# Altium footprint library SafetySocket.PcbLib: 24 footprints (part 2 of 2)
Each footprint in its own frame and in the unit in brackets; x right, y up, seen from the top. Pads: shape width x height; smd on the part's side, far side on the other; paste and mask are expansions set on the pad; w line width, h text height; cw(c..) or ccw(c..) is an arc to the next point about the centre after c.
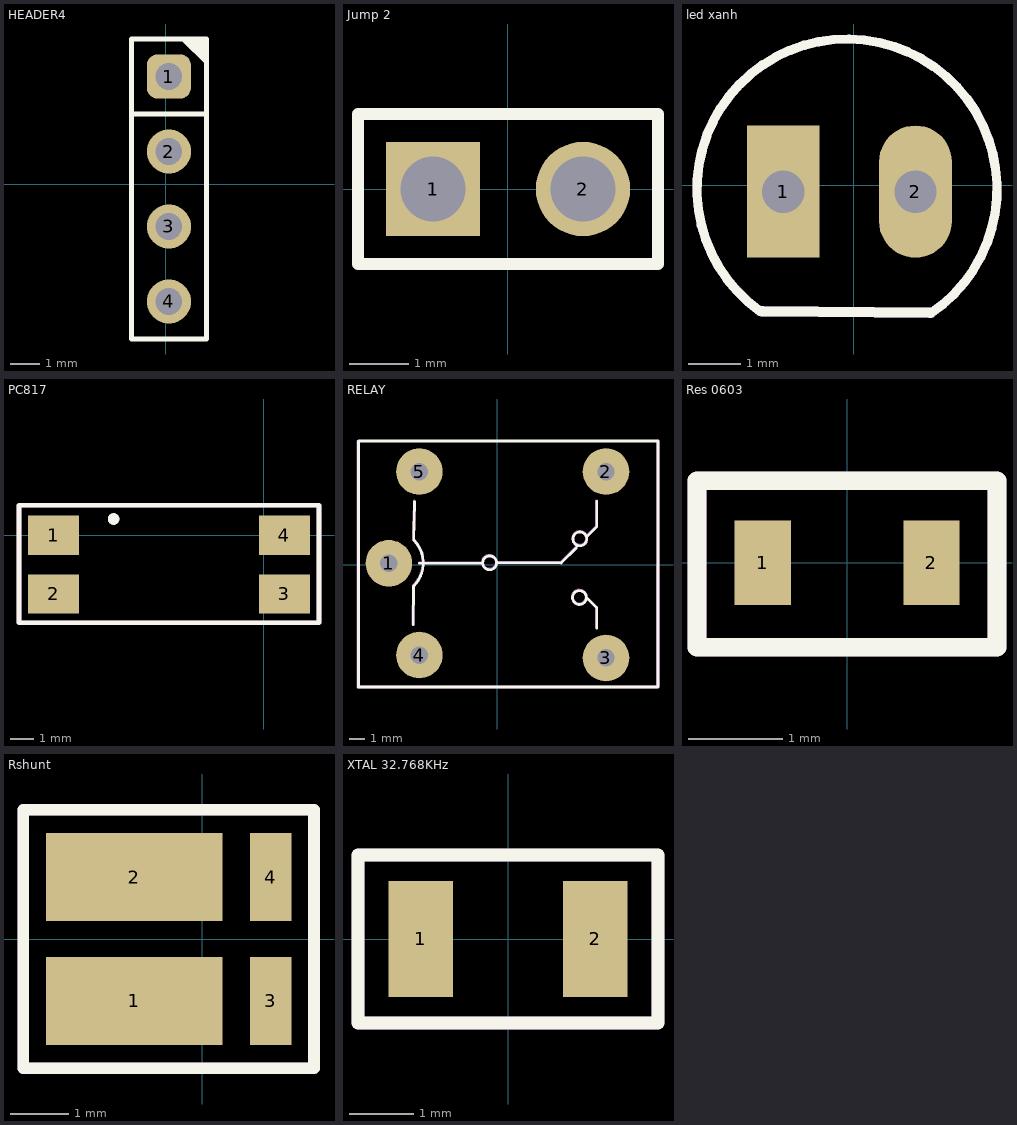
[diagram p1: the footprints below, top view; thin cyan lines are the x and y axes]

## HEADER4 [mm]
pads (4):
  rrect50% 1.5x1.5 hole 0.9: 1(0.104,3.656)
  round 1.5 hole 0.9: 2(0.104,1.116) 3(0.104,-1.424) 4(0.104,-3.964)
Top Overlay:
  region: 1.38,4.032 0.51,4.901 1.38,4.901
  lines w0.178: -1.166,2.386 1.374,2.386 ; -1.166,-5.234 -1.166,4.926 1.374,4.926 1.374,-5.234 -1.166,-5.234
Mechanical 15:
  text ".Comment" at -0.8,0.4 h0.6
Mechanical 29:
  text "'.Designator'" at -1.2,0.4 h0.6
3D body: height 7, standoff -2.5, extent -0.294,-4.363 0.502,-3.564
3D body: height 7, standoff -2.5, extent -0.294,-1.823 0.502,-1.024
3D body: height 7, standoff -2.5, extent -0.294,0.717 0.502,1.516
3D body: height 7, standoff -2.5, extent -0.294,3.257 0.502,4.056
3D body: height 1.5, standoff 0, extent -1.166,2.386 1.374,4.926
3D body: height 1.5, standoff 0, extent -1.166,-0.154 1.374,2.386
3D body: height 1.5, standoff 0, extent -1.166,-2.694 1.374,-0.154
3D body: height 1.5, standoff 0, extent -1.166,-5.234 1.374,-2.694

## Jump 2 [mm]
pads (2):
  rect 1.6x1.6 hole 1.1: 1(-1.27,0)
  round 1.6 hole 1.1: 2(1.27,0)
Top Overlay:
  lines w0.2: -2.54,-1.27 -2.54,1.27 2.54,1.27 2.54,-1.27 -2.54,-1.27
3D body "61300211121.stp": height 8.54, standoff -3, extent -2.54,-1.27 2.54,1.27

## led xanh [mm]
pads (2):
  rect 1.4x2.54 hole 0.813: 1(-1.35,-0.125)
  oval 1.4x2.54 hole 0.813: 2(1.19,-0.125)
Top Overlay:
  lines w0.178: -1.798,-2.421 cw(c-0.125,-0.075) 1.485,-2.465
  lines w0.2: -1.75,-2.425 1.475,-2.45
Mechanical 15:
  lines w0.178: -1.798,-2.421 cw(c-0.125,-0.075) 1.485,-2.465
  lines w0.2: -1.75,-2.425 1.475,-2.45
Mechanical 29:
  lines w0.178: -1.798,-2.421 cw(c-0.125,-0.075) 1.485,-2.465
  lines w0.2: -1.75,-2.425 1.475,-2.45
3D body "CircuitWorks-REDLED.step": height 5.38, standoff -3.17, extent -2.074,-1.623 1.914,1.869

## PC817 [mm]
pads (4):
  rect 2.2x1.7 smd: 1(-9.1,0) 2(-9.1,-2.55) 3(0.9,-2.55) 4(0.9,0)
Top Overlay:
  circle w0.25: c-6.5,0.7 r0.125
  lines w0.2: -10.6,-3.8 2.4,-3.8 2.4,1.3 -10.6,1.3 -10.6,-3.8
Mechanical 15:
  circle w0.25: c-6.5,0.7 r0.125
  lines w0.2: -10.6,-3.8 -10.6,1.3 2.4,1.3 2.4,-3.8 -10.6,-3.8
  text ".Comment" at -6.8,-1.1 h0.6
Mechanical 29:
  circle w0.25: c-6.5,0.7 r0.125
  lines w0.2: -10.6,-3.8 -10.6,1.3 2.4,1.3 2.4,-3.8 -10.6,-3.8
  text "'.Designator'" at -7.2,-1.1 h0.6
3D body "Trans_SHARP_PC817XNNIP0F_eec.STEP": height 4.6, standoff 0, extent -9.1,-3.565 0.9,1.015

## RELAY [mil]
pads (5):
  round 120 hole 45: 1(-279.53,3.78) 2(279.53,240) 3(279.53,-240) 4(-200.79,-232.44) 5(-200.79,240)
Top Overlay:
  circle w7: c-20.11,4.9 r17.8
  circle w7: c211.26,-84.4 r17.8
  circle w7: c212.26,66.6 r17.8
  lines w7: -358.27,-314.96 413.39,-314.96 ; -216.54,-154.53 -216.31,-55.1 ; -215.31,-54.1 ccw(c-272.81,4.4) -214.31,61.9 ; -215.31,62.9 -213.58,162.4 ; -200.79,3.78 -40.31,3.9 ; -0.31,4.9 164.07,4.9 ; 164.07,4.8 203.07,43.8 ; 229.07,-84.4 256.07,-111.4 255.91,-163.39 ; 230.07,72.6 256.07,98.6 255.91,163.39
  lines w7.87: -358.27,-314.96 -358.27,318.9 413.39,318.9 413.39,-314.96
Mechanical 15:
  circle w7: c211.54,68.32 r17.8
  circle w7: c210.54,-82.68 r17.8
  circle w7: c-20.83,6.62 r17.8
  lines w7: -217.26,-152.8 -217.03,-53.38 ; -216.03,-52.38 ccw(c-273.53,6.12) -215.03,63.62 ; -216.03,64.62 -214.3,164.12 ; -201.51,5.5 -41.03,5.62 ; -1.03,6.62 163.35,6.62 ; 163.35,6.52 202.35,45.52 ; 228.35,-82.68 255.35,-109.68 255.18,-161.66 ; 229.35,74.32 255.35,100.32 255.18,165.11 ; -358.99,-314.96 411.74,-314.96 413.43,319.09 -358.99,317.89 -358.99,-314.96
  text ".Comment" at -130.35,77.65 h23.62
Mechanical 29:
  circle w7: c211.54,68.32 r17.8
  circle w7: c210.54,-82.68 r17.8
  circle w7: c-20.83,6.62 r17.8
  lines w7: -217.26,-152.8 -217.03,-53.38 ; -216.03,-52.38 ccw(c-273.53,6.12) -215.03,63.62 ; -216.03,64.62 -214.3,164.12 ; -201.51,5.5 -41.03,5.62 ; -1.03,6.62 163.35,6.62 ; 163.35,6.52 202.35,45.52 ; 228.35,-82.68 255.35,-109.68 255.18,-161.66 ; 229.35,74.32 255.35,100.32 255.18,165.11 ; -358.99,-315.16 413.39,-314.92 413.39,319.09 -358.99,317.89 -358.99,-315.16
  text "'.Designator'" at -146.1,77.65 h23.62
3D body "User Library-SONGLE Relay SRU-12VDC-SL-C.STEP": height 602.36, standoff -196.85, extent -334.63,-302.14 417.34,308.1

## Res 0603 [mm]
pads (2):
  rect 0.6x0.9 smd: 1(-0.9,0) 2(0.9,0)
Top Overlay:
  lines w0.2: -1.6,-0.9 -1.6,0.875 1.6,0.875 1.6,-0.9 -1.6,-0.9
Mechanical 15:
  lines w0.2: -1.6,-0.9 1.6,-0.9 1.6,0.875 -1.6,0.875 -1.6,-0.9
  text ".Comment" at -0.5,-0.325 h0.6
Mechanical 29:
  lines w0.2: -1.6,-0.9 1.6,-0.9 1.6,0.875 -1.6,0.875 -1.6,-0.9
  text "'.Designator'" at -0.9,-0.325 h0.6
3D body "CircuitWorks-RESISTOR 0603 (2).step": height 0.49, standoff -0.02, extent -0.788,-0.424 0.812,0.436

## Rshunt [mm]
pads (4):
  rect 3x1.5 smd: 1(-1.162,-1.052) 2(-1.162,1.052)
  rect 0.7x1.5 smd: 3(1.162,-1.052) 4(1.162,1.052)
Top Overlay:
  lines w0.2: -3.05,-2.2 -3.05,2.2 1.9,2.2 1.9,-2.2 -3.05,-2.2
Mechanical 15:
  lines w0.2: -3.05,-2.2 1.9,-2.2 1.9,2.2 -3.05,2.2 -3.05,-2.2
  text ".Comment" at -1.75,-0.131 h0.6
Mechanical 29:
  lines w0.2: -3.05,-2.2 1.9,-2.2 1.9,2.2 -3.05,2.2 -3.05,-2.2
  text "'.Designator'" at -2.15,-0.131 h0.6
3D body "WSK1216.STEP": height 1.75, standoff 0.02, extent -2.455,-1.461 1.355,1.461

## XTAL 32.768KHz [mm]
pads (2):
  rect 1x1.8 smd: 1(-1.35,0) 2(1.35,0)
Top Overlay:
  lines w0.2: -2.325,-1.3 2.325,-1.3 2.325,1.3 -2.325,1.3 -2.325,-1.3
Mechanical 15:
  lines w0.2: -2.325,-1.3 -2.325,1.3 2.325,1.3 2.325,-1.3 -2.325,-1.3
  text ".Comment" at -0.55,-0.1 h0.6
Mechanical 29:
  lines w0.2: -2.325,-1.3 -2.325,1.3 2.325,1.3 2.325,-1.3 -2.325,-1.3
  text "'.Designator'" at -0.95,-0.1 h0.6
3D body "User Library-Crystal FC-135.STEP": height 0.8, standoff 0, extent -1.6,-0.75 1.6,0.75